# Altium footprint library audio_dev_pcb.PcbLib: 22 footprints (part 1 of 2)
Each footprint in its own frame and in the unit in brackets; x right, y up, seen from the top. Pads: shape width x height; smd on the part's side, far side on the other; paste and mask are expansions set on the pad; w line width, h text height; cw(c..) or ccw(c..) is an arc to the next point about the centre after c.
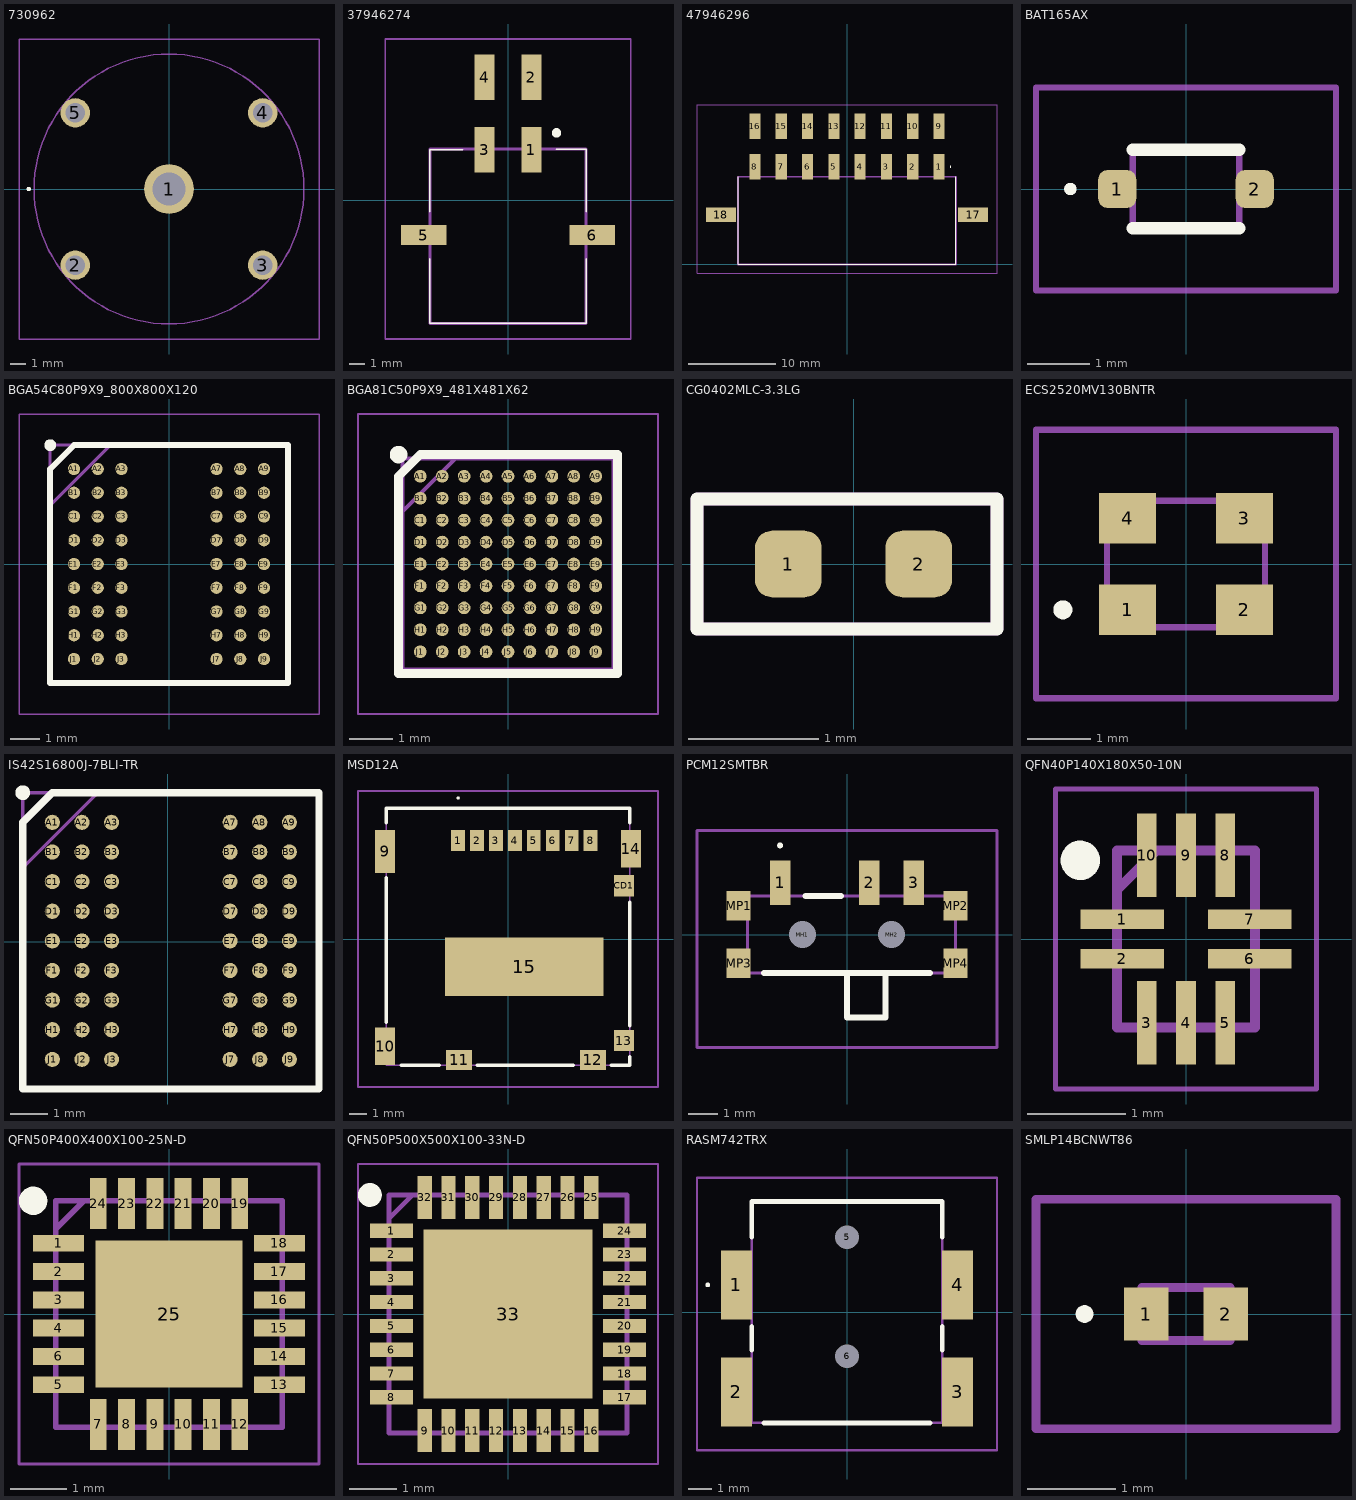
[diagram p0: the footprints below, top view; thin cyan lines are the x and y axes]

## 730962 [mm]
pads (5):
  round 3.3 hole 2.2: 1(0,0)
  round 1.95 hole 1.3: 2(-6.25,-5.08) 3(6.25,-5.08) 4(6.25,5.08) 5(-6.25,5.08)
Top Overlay:
  lines w0.2: -9.4,0 ccw(c-9.35,0) -9.3,0 ; -9.4,0 cw(c-9.35,0) -9.3,0 ; -9.4,0 ccw(c-9.35,0) -9.3,0
Mechanical 13:
  lines w0.1: -9,0 cw(c0,0) 9,0 cw(c0,0) -9,0
Mechanical 15:
  lines w0.1: -10,-10 -10,10 10,10 10,-10 -10,-10
3D body "73096-2.stp": height 27.43, standoff -2.54, extent -9.004,-9.009 9.004,8.991

## 37946274 [mm]
pads (6):
  rect 1.27x2.92 smd: 1(1.5,3.255) 2(1.5,7.875) 3(-1.5,3.255) 4(-1.5,7.875)
  rect 2.92x1.27 smd: 5(-5.395,-2.225) 6(5.395,-2.225)
Top Overlay:
  lines w0.1: -5,-3.725 -5,-7.875 5,-7.875 5,-3.725 ; -5,-0.725 -5,3.255 -2.895,3.255 ; 3.105,3.285 5,3.285 5,-0.725
  lines w0.5: 3.105,4.275 cw(c3.105,4.325) 3.105,4.375 cw(c3.105,4.325) 3.105,4.275
Mechanical 13:
  lines w0.2: -5,-7.875 -5,3.285 5,3.285 5,-7.875 -5,-7.875
Mechanical 15:
  lines w0.1: -7.855,-8.875 -7.855,10.335 7.855,10.335 7.855,-8.875 -7.855,-8.875
3D body "3-794627-4.stp": height 8.67, standoff 0, extent -6.555,-6.85 6.555,8.78

## 47946296 [mm]
pads (18):
  rect 1.27x2.92 smd: 1(10.5,11.13) 2(7.5,11.13) 3(4.5,11.13) 4(1.5,11.13) 5(-1.5,11.13) 6(-4.5,11.13) 7(-7.5,11.13) 8(-10.5,11.13) 9(10.5,15.75) 10(7.5,15.75) 11(4.5,15.75) 12(1.5,15.75) 13(-1.5,15.75) 14(-4.5,15.75) 15(-7.5,15.75) 16(-10.5,15.75)
  rect 3.43x1.65 smd: 17(14.395,5.65) 18(-14.395,5.65)
Top Overlay:
  lines w0.1: -12.43,10 -12.43,0 12.43,0 12.43,10 ; 11.8,11.1 ccw(c11.8,11.15) 11.8,11.2 ccw(c11.8,11.15) 11.8,11.1
Mechanical 13:
  lines w0.2: -12.43,0 -12.43,10 12.43,10 12.43,0 -12.43,0
Mechanical 15:
  lines w0.1: -17.11,-1 -17.11,18.21 17.11,18.21 17.11,-1 -17.11,-1
3D body "4-794629-6.stp": height 8.67, standoff 0, extent -15.52,0.96 15.52,16.59

## BAT165AX [mil]
pads (2):
  rrect50% 24x24 smd: 1(-43.31,0) 2(43.31,0)
Top Overlay:
  lines w3.94: -74.8,0 cw(c-72.83,0) -70.87,0 cw(c-72.83,0) -74.8,0
  lines w7.87: -33.46,-24.61 33.46,-24.61 ; -33.46,24.61 33.46,24.61
Mechanical 13:
  lines w3.94: -33.46,-24.61 -33.46,24.61 33.46,24.61 33.46,-24.61 -33.46,-24.61
Mechanical 15:
  lines w3.94: -94.49,-63.98 -94.49,63.98 94.49,63.98 94.49,-63.98 -94.49,-63.98
3D body "BAT165AX.stp": height 36.5, standoff -0.12, extent -48.97,-24.54 49,24.67

## BGA54C80P9X9_800X800X120 [mm]
pads (54):
  round 0.41 smd: A1(-3.2,3.2) A2(-2.4,3.2) A3(-1.6,3.2) A7(1.6,3.2) A8(2.4,3.2) A9(3.2,3.2) B1(-3.2,2.4) B2(-2.4,2.4) B3(-1.6,2.4) B7(1.6,2.4) B8(2.4,2.4) B9(3.2,2.4) C1(-3.2,1.6) C2(-2.4,1.6) C3(-1.6,1.6) C7(1.6,1.6) C8(2.4,1.6) C9(3.2,1.6) D1(-3.2,0.8) D2(-2.4,0.8) D3(-1.6,0.8) D7(1.6,0.8) D8(2.4,0.8) D9(3.2,0.8) E1(-3.2,0) E2(-2.4,0) E3(-1.6,0) E7(1.6,0) E8(2.4,0) E9(3.2,0) F1(-3.2,-0.8) F2(-2.4,-0.8) F3(-1.6,-0.8) F7(1.6,-0.8) F8(2.4,-0.8) F9(3.2,-0.8) G1(-3.2,-1.6) G2(-2.4,-1.6) G3(-1.6,-1.6) G7(1.6,-1.6) G8(2.4,-1.6) G9(3.2,-1.6) H1(-3.2,-2.4) H2(-2.4,-2.4) H3(-1.6,-2.4) H7(1.6,-2.4) H8(2.4,-2.4) H9(3.2,-2.4) J1(-3.2,-3.2) J2(-2.4,-3.2) J3(-1.6,-3.2) J7(1.6,-3.2) J8(2.4,-3.2) J9(3.2,-3.2)
Top Overlay:
  circle w0.2: c-4,4 r0.1
  lines w0.2: -4,-4 4,-4 4,4 -3.2,4 -4,3.2 -4,-4
Mechanical 13:
  lines w0.1: -4,1.975 -1.975,4 ; -4,-4 4,-4 4,4 -4,4 -4,-4
Mechanical 15:
  lines w0.05: -5.05,-5.05 5.05,-5.05 5.05,5.05 -5.05,5.05 -5.05,-5.05
3D body "IS42S16800J-7BLI-TR.stp": height 1.2, standoff 0, extent -4,-4 4,4

## BGA81C50P9X9_481X481X62 [mm]
pads (81):
  round 0.29 smd: A1(-2,2) A2(-1.5,2) A3(-1,2) A4(-0.5,2) A5(0,2) A6(0.5,2) A7(1,2) A8(1.5,2) A9(2,2) B1(-2,1.5) B2(-1.5,1.5) B3(-1,1.5) B4(-0.5,1.5) B5(0,1.5) B6(0.5,1.5) B7(1,1.5) B8(1.5,1.5) B9(2,1.5) C1(-2,1) C2(-1.5,1) C3(-1,1) C4(-0.5,1) C5(0,1) C6(0.5,1) C7(1,1) C8(1.5,1) C9(2,1) D1(-2,0.5) D2(-1.5,0.5) D3(-1,0.5) D4(-0.5,0.5) D5(0,0.5) D6(0.5,0.5) D7(1,0.5) D8(1.5,0.5) D9(2,0.5) E1(-2,0) E2(-1.5,0) E3(-1,0) E4(-0.5,0) E5(0,0) E6(0.5,0) E7(1,0) E8(1.5,0) E9(2,0) F1(-2,-0.5) F2(-1.5,-0.5) F3(-1,-0.5) F4(-0.5,-0.5) F5(0,-0.5) F6(0.5,-0.5) F7(1,-0.5) F8(1.5,-0.5) F9(2,-0.5) G1(-2,-1) G2(-1.5,-1) G3(-1,-1) G4(-0.5,-1) G5(0,-1) G6(0.5,-1) G7(1,-1) G8(1.5,-1) G9(2,-1) H1(-2,-1.5) H2(-1.5,-1.5) H3(-1,-1.5) H4(-0.5,-1.5) H5(0,-1.5) H6(0.5,-1.5) H7(1,-1.5) H8(1.5,-1.5) H9(2,-1.5) J1(-2,-2) J2(-1.5,-2) J3(-1,-2) J4(-0.5,-2) J5(0,-2) J6(0.5,-2) J7(1,-2) J8(1.5,-2) J9(2,-2)
Top Overlay:
  circle w0.2: c-2.495,2.495 r0.1
  lines w0.2: -2.495,-2.495 2.495,-2.495 2.495,2.495 -2,2.495 -2.495,2 -2.495,-2.495
Mechanical 13:
  lines w0.1: -2.405,1.195 -1.195,2.405 ; -2.405,-2.405 2.405,-2.405 2.405,2.405 -2.405,2.405 -2.405,-2.405
Mechanical 15:
  lines w0.05: -3.42,-3.42 3.42,-3.42 3.42,3.42 -3.42,3.42 -3.42,-3.42
3D body "TLV320AIC3263IYZFT.stp": height 0.63, standoff 0, extent -2.405,-2.405 2.405,2.405

## CG0402MLC-3.3LG [mm]
pads (2):
  rrect50% 0.51x0.51 smd: 1(-0.5,0) 2(0.5,0)
Top Overlay:
  lines w0.1: -1.2,-0.5 1.1,-0.5 1.1,0.5 -1.2,0.5 -1.2,-0.5
Mechanical 15:
  lines w0.1: -1.2,-0.5 1.1,-0.5 1.1,0.5 -1.2,0.5 -1.2,-0.5
3D body "cg0402mlc.stp": height 0.5, standoff 0, extent -0.5,-0.18 0.5,0.18

## ECS2520MV130BNTR [mm]
pads (4):
  rect 0.9x0.8 smd: 1(-0.925,-0.725) 2(0.925,-0.725) 3(0.925,0.725) 4(-0.925,0.725)
Top Overlay:
  lines w0.2: -2,-0.725 cw(c-1.95,-0.725) -1.9,-0.725 ; -2,-0.725 ccw(c-1.95,-0.725) -1.9,-0.725 ; -2,-0.725 -1.9,-0.725
Mechanical 13:
  lines w0.1: -1.25,-1 -1.25,1 1.25,1 1.25,-1 -1.25,-1
Mechanical 15:
  lines w0.1: -2.375,-2.125 -2.375,2.125 2.375,2.125 2.375,-2.125 -2.375,-2.125
3D body "ECS-2520MV-130-BN-TR.stp": height 0.9, standoff 0, extent -1.25,-1 1.25,1

## IS42S16800J-7BLI-TR [mm]
pads (54):
  round 0.41 smd: A1(-3.116,3.22) A2(-2.316,3.22) A3(-1.516,3.22) A7(1.684,3.22) A8(2.484,3.22) A9(3.284,3.22) B1(-3.116,2.42) B2(-2.316,2.42) B3(-1.516,2.42) B7(1.684,2.42) B8(2.484,2.42) B9(3.284,2.42) C1(-3.116,1.62) C2(-2.316,1.62) C3(-1.516,1.62) C7(1.684,1.62) C8(2.484,1.62) C9(3.284,1.62) D1(-3.116,0.82) D2(-2.316,0.82) D3(-1.516,0.82) D7(1.684,0.82) D8(2.484,0.82) D9(3.284,0.82) E1(-3.116,0.02) E2(-2.316,0.02) E3(-1.516,0.02) E7(1.684,0.02) E8(2.484,0.02) E9(3.284,0.02) F1(-3.116,-0.78) F2(-2.316,-0.78) F3(-1.516,-0.78) F7(1.684,-0.78) F8(2.484,-0.78) F9(3.284,-0.78) G1(-3.116,-1.58) G2(-2.316,-1.58) G3(-1.516,-1.58) G7(1.684,-1.58) G8(2.484,-1.58) G9(3.284,-1.58) H1(-3.116,-2.38) H2(-2.316,-2.38) H3(-1.516,-2.38) H7(1.684,-2.38) H8(2.484,-2.38) H9(3.284,-2.38) J1(-3.116,-3.18) J2(-2.316,-3.18) J3(-1.516,-3.18) J7(1.684,-3.18) J8(2.484,-3.18) J9(3.284,-3.18)
Top Overlay:
  circle w0.2: c-3.916,4.02 r0.1
  lines w0.2: -3.916,-3.98 4.084,-3.98 4.084,4.02 -3.116,4.02 -3.916,3.22 -3.916,-3.98
Mechanical 15:
  lines w0.1: -3.916,1.995 -1.891,4.02 ; -3.916,-3.98 4.084,-3.98 4.084,4.02 -3.916,4.02 -3.916,-3.98
3D body "IS42S16800J-7BLI-TR.stp": height 1.2, standoff 0, extent -4,-4 4,4

## MSD12A [mm]
pads (16):
  rect 0.8x1.24 smd: 1(-2.9,5.725) 2(-1.8,5.725) 3(-0.7,5.725) 4(0.4,5.725) 5(1.5,5.725) 6(2.6,5.725) 7(3.7,5.725) 8(4.8,5.725)
  rect 1.15x2.5 smd: 9(-7.145,5.096)
  rect 1.15x2.2 smd: 10(-7.145,-6.234) 14(7.145,5.245)
  rect 1.5x1.15 smd: 11(-2.84,-7.029) 12(4.94,-7.029)
  rect 1.16x1.2 smd: 13(6.74,-5.904)
  rect 9.2x3.4 smd: 15(0.95,-1.605)
  rect 1.16x1.25 smd: CD1(6.74,3.096)
Top Overlay:
  lines w0.1: -2.9,8.148 ccw(c-2.9,8.198) -2.9,8.248 ccw(c-2.9,8.198) -2.9,8.148
  lines w0.2: -7.07,-4.852 -7.07,3.548 ; -7.07,6.748 -7.07,7.605 7.07,7.605 7.07,6.748 ; -6.2,-7.345 -4,-7.345 ; -1.8,-7.345 3.8,-7.345 ; 6,-7.345 7.07,-7.345 7.07,-6.852 ; 7.07,-5.053 7.07,2.148
Mechanical 13:
  lines w0.1: -7.07,-7.345 7.07,-7.345 7.07,7.605 -7.07,7.605 -7.07,-7.345
Mechanical 15:
  lines w0.1: -8.72,-8.605 8.72,-8.605 8.72,8.605 -8.72,8.605 -8.72,-8.605
3D body "MSD-12-A.stp": height 1.37, standoff -0.08, extent -7.47,-7.43 7.47,7.62

## PCM12SMTBR [mm]
pads (9):
  rect 0.7x1.5 smd: 1(-2.25,1.75) 2(0.75,1.75) 3(2.25,1.75)
  round 0.45 hole 0.9 unplated: MH1(-1.5,0) MH2(1.5,0)
  rect 0.8x1 smd: MP1(-3.65,0.965) MP2(3.65,0.965) MP3(-3.65,-0.965) MP4(3.65,-0.965)
Top Overlay:
  lines w0.1: -2.25,2.95 ccw(c-2.25,3) -2.25,3.05 ccw(c-2.25,3) -2.25,2.95
  lines w0.2: -2.8,-1.3 2.8,-1.3 ; -1.4,1.3 -0.2,1.3 ; 0,-1.3 0,-2.8 1.3,-2.8 1.3,-1.3
Mechanical 13:
  lines w0.1: 0,-1.3 0,-2.8 1.3,-2.8 1.3,-1.3 ; -3.35,-1.3 -3.35,1.3 3.65,1.3 3.65,-1.3 -3.35,-1.3
Mechanical 15:
  lines w0.1: -5.05,-3.8 -5.05,3.5 5.05,3.5 5.05,-3.8 -5.05,-3.8
3D body "PCM12SMTBR.stp": height 1.43, standoff -0.47, extent -3.85,-2.83 3.85,2.17

## QFN40P140X180X50-10N [mm]
pads (10):
  rect 0.85x0.2 smd: 1(-0.65,0.2) 2(-0.65,-0.2) 6(0.65,-0.2) 7(0.65,0.2)
  rect 0.2x0.85 smd: 3(-0.4,-0.85) 4(0,-0.85) 5(0.4,-0.85) 8(0.4,0.85) 9(0,0.85) 10(-0.4,0.85)
Top Overlay:
  circle w0.2: c-1.075,0.8 r0.1
Mechanical 13:
  lines w0.1: -0.7,0.5 -0.3,0.9 ; -0.7,-0.9 0.7,-0.9 0.7,0.9 -0.7,0.9 -0.7,-0.9
Mechanical 15:
  lines w0.05: -1.325,-1.525 1.325,-1.525 1.325,1.525 -1.325,1.525 -1.325,-1.525
3D body "NX3DV42GU,115.stp": height 0.48, standoff 0, extent -0.704,-0.899 0.696,0.901

## QFN50P400X400X100-25N-D [mm]
pads (25):
  rect 0.9x0.3 smd: 1(-1.95,1.25) 2(-1.95,0.75) 3(-1.95,0.25) 4(-1.95,-0.25) 5(-1.95,-1.25) 6(-1.95,-0.75) 13(1.95,-1.25) 14(1.95,-0.75) 15(1.95,-0.25) 16(1.95,0.25) 17(1.95,0.75) 18(1.95,1.25)
  rect 0.3x0.9 smd: 7(-1.25,-1.95) 8(-0.75,-1.95) 9(-0.25,-1.95) 10(0.25,-1.95) 11(0.75,-1.95) 12(1.25,-1.95) 19(1.25,1.95) 20(0.75,1.95) 21(0.25,1.95) 22(-0.25,1.95) 23(-0.75,1.95) 24(-1.25,1.95)
  rect 2.6x2.6 smd: 25(0,0)
Top Overlay:
  circle w0.25: c-2.4,2 r0.125
Mechanical 13:
  lines w0.1: -2,1.5 -1.5,2 ; -2,-2 -2,2 2,2 2,-2 -2,-2
Mechanical 15:
  lines w0.05: -2.65,-2.65 -2.65,2.65 2.65,2.65 2.65,-2.65 -2.65,-2.65
3D body "USB3318C-CP-TR.stp": height 1, standoff 0, extent -2.05,-2.05 2.05,2.05

## QFN50P500X500X100-33N-D [mm]
pads (33):
  rect 0.9x0.3 smd: 1(-2.45,1.75) 2(-2.45,1.25) 3(-2.45,0.75) 4(-2.45,0.25) 5(-2.45,-0.25) 6(-2.45,-0.75) 7(-2.45,-1.25) 8(-2.45,-1.75) 17(2.45,-1.75) 18(2.45,-1.25) 19(2.45,-0.75) 20(2.45,-0.25) 21(2.45,0.25) 22(2.45,0.75) 23(2.45,1.25) 24(2.45,1.75)
  rect 0.3x0.9 smd: 9(-1.75,-2.45) 10(-1.25,-2.45) 11(-0.75,-2.45) 12(-0.25,-2.45) 13(0.25,-2.45) 14(0.75,-2.45) 15(1.25,-2.45) 16(1.75,-2.45) 25(1.75,2.45) 26(1.25,2.45) 27(0.75,2.45) 28(0.25,2.45) 29(-0.25,2.45) 30(-0.75,2.45) 31(-1.25,2.45) 32(-1.75,2.45)
  rect 3.55x3.55 smd: 33(0,0)
Top Overlay:
  circle w0.25: c-2.9,2.5 r0.125
Mechanical 13:
  lines w0.1: -2.5,2 -2,2.5 ; -2.5,-2.5 2.5,-2.5 2.5,2.5 -2.5,2.5 -2.5,-2.5
Mechanical 15:
  lines w0.05: -3.15,-3.15 3.15,-3.15 3.15,3.15 -3.15,3.15 -3.15,-3.15
3D body "TLV320AIC3104IRHBR.stp": height 1, standoff 0, extent -2.5,-2.5 2.5,2.5

## RASM742TRX [mm]
pads (6):
  rect 1.3x2.9 smd: 1(-4.65,1.15) 2(-4.65,-3.35) 3(4.65,-3.35) 4(4.65,1.15)
  round 0.5 hole 1 unplated: 5(0,3.15) 6(0,-1.85)
Top Overlay:
  lines w0.1: -5.9,1.15 cw(c-5.85,1.15) -5.8,1.15 cw(c-5.85,1.15) -5.9,1.15
  lines w0.2: -4,-1.6 -4,-0.6 ; -4,3.15 -4,4.65 4,4.65 4,3.15 ; -3.5,-4.65 3.5,-4.65 ; 4,-1.6 4,-0.6
Mechanical 13:
  lines w0.1: -4,-4.65 4,-4.65 4,4.65 -4,4.65 -4,-4.65
Mechanical 15:
  lines w0.1: -6.3,-5.8 6.3,-5.8 6.3,5.65 -6.3,5.65 -6.3,-5.8
3D body "RASM742TRX.stp": height 5.15, standoff -0.95, extent -5.1,-4.55 4.7,4.75

## SMLP14BCNWT86 [mm]
pads (2):
  rect 0.5x0.6 smd: 1(-0.45,0) 2(0.45,0)
Top Overlay:
  lines w0.1: -1.2,0 ccw(c-1.15,0) -1.1,0 ccw(c-1.15,0) -1.2,0
Mechanical 13:
  lines w0.1: -0.5,-0.3 0.5,-0.3 0.5,0.3 -0.5,0.3 -0.5,-0.3
Mechanical 15:
  lines w0.1: -1.7,-1.3 1.7,-1.3 1.7,1.3 -1.7,1.3 -1.7,-1.3
3D body "SMLP14BCNWT86.stp": height 0.35, standoff 0, extent -0.5,-0.3 0.5,0.3